# Altium schematic symbol library TeknoFest.SchLib: 9 symbols
Pins are listed as number, name and electrical type; pins without a type are passive.

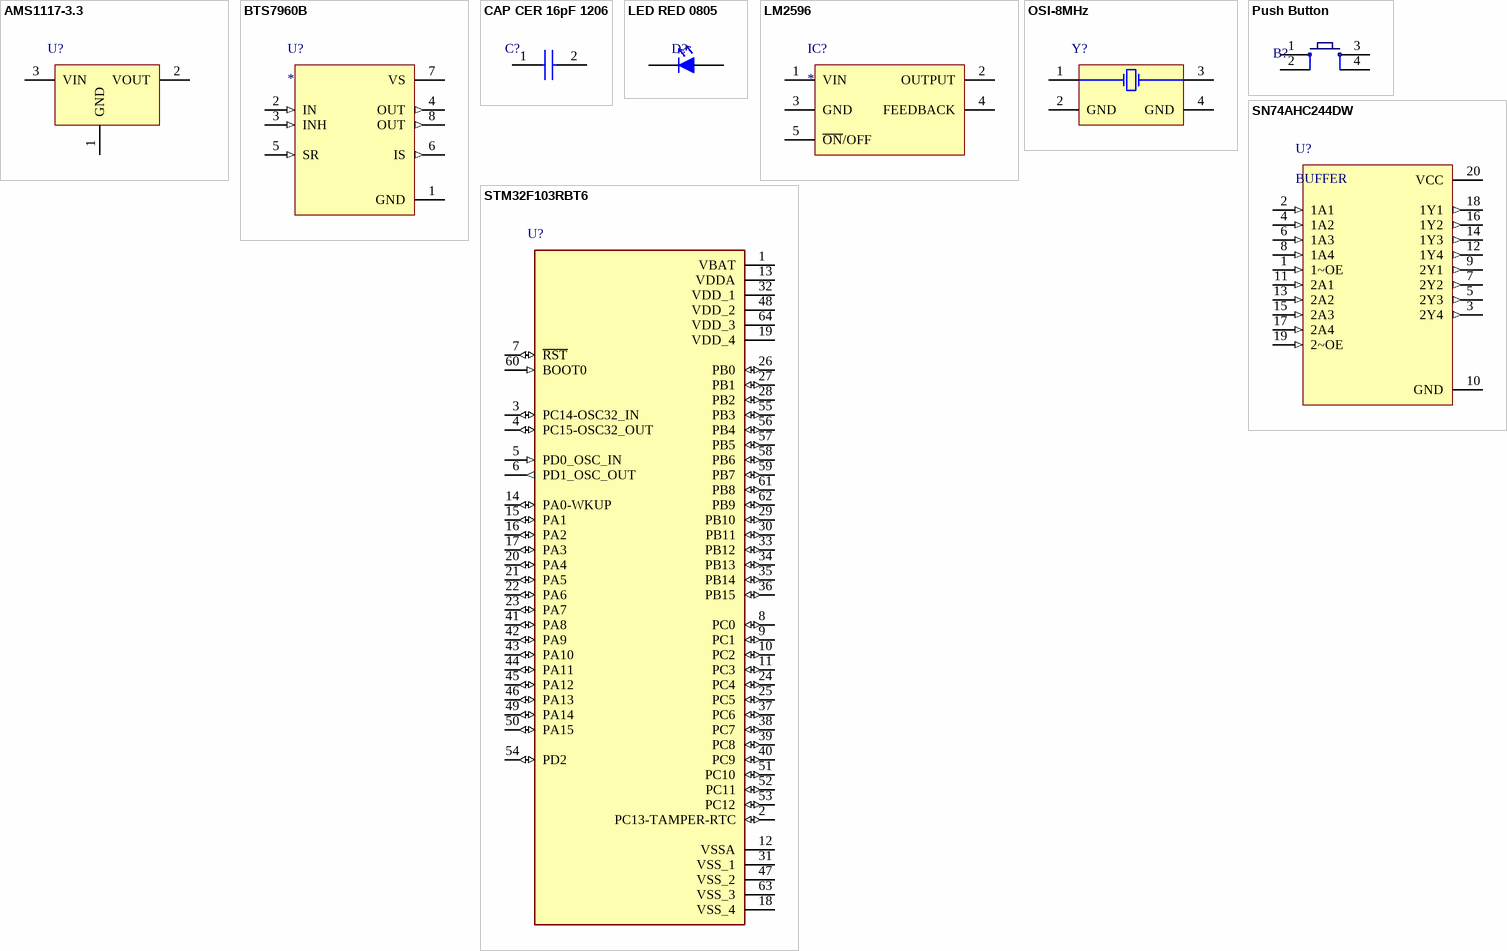
[diagram p0: symbols AMS1117-3.3 to STM32F103RBT6]

## AMS1117-3.3
designator U?  (value not drawn)
IC-1117 V.REG. 1A 3V3 SOT223 SMD AMS; Manufacturer: UMW(Youtai Semiconductor Co., Ltd.); Designed by: Mustafa oğuz Ateş; Supplier: Digikey; Supplier Part Number: 4518-AMS1117-3.3CT-ND; Manufacturer Part Number: AMS1117-3.3; RoHS: No; Category: Uncategorized; Pricing: 1=0,48, 10=0,388, 25=0,3552, 100=0,2644, 250=0,2396, 500=0,19828, 1000=0,14871 (USD)
footprint SOT-223
pins: 1 GND, 2 VOUT, 3 VIN
text: /

## BTS7960B
designator U?
footprint DPAK127P1490X440-8N
pins: 1 GND (power), 2 IN (in), 3 INH (in), 4 OUT (out), 5 SR (in), 6 IS (out), 7 VS (power), 8 OUT (out)

## CAP CER 16pF 1206
designator C?  (value not drawn)
footprint CAP_1206
pins: 1, 2

## LED RED 0805
designator D?, comment LH R974-LP-1  (value not drawn)
LED Uni-Color Hyper Red 660nm 2-Pin Chip 0805(2012Metric) T/R; Manufacturer: Osram Opto; Lens Color: White; Forward Voltage: 1.8V; Lens Style: Diffused,Flat,Colorless; Luminous Intensity: 71mcd; Viewing Angle: 160°; Forward Current: 30mA; Dominant Wavelength: 645nm; Number of Elements: 1; Test Current: 20mA; Reverse Voltage: 5V; Lens Transparency: Diffused; Luminous Flux: 0.17lm; Lens Size: 1.25mm; Designed by: Mustafa; Supplier 1: Digi-Key; Manufacturer Part Number: LH R974-LP-1; RoHS: Yes; Category: LEDs; Stock 1: 35632; Pricing 1: 1=0,26000, 10=0,13900, 100=0,06480, 500=0,05978, 1000=0,04683, 2000=0,04584 (USD); Mount: Surface Mount; Case/Package: 0805; Number of Pins: 2; Color: Red; Case Code (Imperial): 0805; Case Code (Metric): 2012; Min Operating Temperature: -30°C; Max Operating Temperature: 85°C; Packaging: Tape and Reel; Illumination Color: Red; Package Quantity: 1; Series: CHipLED; Length: 2.1mm; Width: 1.25mm; Depth: 1.35mm; Radiation Hardening: No; RoHS Compliant: Yes; ComponentLink1URL: http://www.jameco.com/Jameco/Products/ProdDS/2085634.pdf?src-supplier=Jameco; ComponentLink1Description: http://www.jameco.com/Jameco/Products/ProdDS/2085634.pdf?src-supplier=Jameco; ComponentLink2URL: http://components.arrow.com/part/dataview/0323_01825492?src-supplier=Arrow+Europe; ComponentLink2Description: http://components.arrow.com/part/dataview/0323_01825492?src-supplier=Arrow+Europe; ComponentLink3URL: https://dammedia.osram.info/media/resource/hires/osram-dam-2493888/LH%20R974.pdf?src-supplier=Digi-Key; ComponentLink3Description: https://dammedia.osram.info/media/resource/hires/osram-dam-2493888/LH%20R974.pdf?src-supplier=Digi-Key; ComponentLink4URL: http://www.mouser.com/ds/2/311/LH%20R974%20-%20CHIPLED%200805-318659.pdf?src-supplier=Mouser; ComponentLink4Description: http://www.mouser.com/ds/2/311/LH%20R974%20-%20CHIPLED%200805-318659.pdf?src-supplier=Mouser; ComponentLink5URL: https://www.verical.com/server-webapp/html/getDatasheet?partID=258950&src-supplier=Verical; ComponentLink5Description: https://www.verical.com/server-webapp/html/getDatasheet?partID=258950&src-supplier=Verical; ComponentLink6URL: http://components.arrow.com/part/dataview/41971690S1077610N9133?src-supplier=Arrow+Electronics; ComponentLink6Description: http://components.arrow.com/part/dataview/41971690S1077610N9133?src-supplier=Arrow+Electronics; ComponentLink7URL: http://components.arrow.com/part/dataview/41971690S6190115N2128?src-supplier=Arrow+Electronics; ComponentLink7Description: http://components.arrow.com/part/dataview/41971690S6190115N2128?src-supplier=Arrow+Electronics; Supplier Part Number 1: 475-1415-1-ND
footprint LED_RED_0805
pins: 1 (power), 2 (power)

## LM2596
designator IC?
footprint D2PAK
pins: 1 VIN, 2 OUTPUT, 3 GND, 4 FEEDBACK, 5 ~{ON}/OFF

## OSI-8MHz
designator Y?, comment 8MHz-osi  (value not drawn)
CRYSTAL 8MHZ 12.5pF SMD TR RALTRON; Frequency Tolerance: ±20PPM; Frequency Stability: ±15PPM; Equivalent Series Resistance (ESR): 100 Ohms; Designed by: Mustafa oğuz ateş; Frequency: 8MHz; Capacitance: 12.5pF; Operating Temperature: -40°C~+85°C; Dimensions (mm): 3.20x2.50x0.70; Packaging: TAPE&REEL; Package / Case: 4-SMD; Series: RH100; Manufacturer: RALTRON; Mounting Type: SMT
footprint 8MHz-OSC
pins: 1 Tristate, 2 GND, 3 OUT, 4 GND

## Push Button
designator B?  (value not drawn)
Smd Push Button; Satın Alma Linki: https://urun.n11.com/diger/mini-pushbutton-switch-smd-P227461537?gclid=Cj0KCQjwkoDmBRCcARIsAG3xzl8Y_-jeD7HocNM6lvuZ_rVp83568XPGtNzlPwXWLph8oCRqo0yh87UaApZYEALw_wcB&gclsrc=aw.ds
footprint PUSB BUTTON-SMD
pins: 1, 2, 3, 4

## SN74AHC244DW
designator U?, comment BUFFER
IC BUFFER INVERT 5.5V 20SOIC
footprint SOIC127P1030X265-20N
pins: 1 1~OE (in), 2 1A1 (in), 3 2Y4 (out), 4 1A2 (in), 5 2Y3 (out), 6 1A3 (in), 7 2Y2 (out), 8 1A4 (in), 9 2Y1 (out), 10 GND (power), 11 2A1 (in), 12 1Y4 (out), 13 2A2 (in), 14 1Y3 (out), 15 2A3 (in), 16 1Y2 (out), 17 2A4 (in), 18 1Y1 (out), 19 2~OE (in), 20 VCC (power)

## STM32F103RBT6
designator U?  (value not drawn)
STM32F103RTB6 LQFP-64; MF: STMicroelectronics; Designed by: Mustafa Oğuz Ateş; Package: LQFP-64 STMicroelectronics; Price: None; Check_prices: https://www.snapeda.com/parts/STM32F103RBT6/STMicroelectronics/view-part/?ref=eda; Value: *; SnapEDA_Link: https://www.snapeda.com/parts/STM32F103RBT6/STMicroelectronics/view-part/?ref=snap; MP: STM32F103RBT6; Availability: In Stock; Purchase-URL: https://pricing.snapeda.com/search?q=STM32F103RBT6&ref=eda
footprint LQFP-64
pins: 1 VBAT (power), 2 PC13-TAMPER-RTC (io), 3 PC14-OSC32_IN (io), 4 PC15-OSC32_OUT (io), 5 PD0_OSC_IN (in), 6 PD1_OSC_OUT (out), 7 ~{RST} (io), 8 PC0 (io), 9 PC1 (io), 10 PC2 (io), 11 PC3 (io), 12 VSSA (power), 13 VDDA (power), 14 PA0-WKUP (io), 15 PA1 (io), 16 PA2 (io), 17 PA3 (io), 18 VSS_4 (power), 19 VDD_4 (power), 20 PA4 (io), 21 PA5 (io), 22 PA6 (io), 23 PA7 (io), 24 PC4 (io), 25 PC5 (io), 26 PB0 (io), 27 PB1 (io), 28 PB2 (io), 29 PB10 (io), 30 PB11 (io), 31 VSS_1 (power), 32 VDD_1 (power), 33 PB12 (io), 34 PB13 (io), 35 PB14 (io), 36 PB15 (io), 37 PC6 (io), 38 PC7 (io), 39 PC8 (io), 40 PC9 (io), 41 PA8 (io), 42 PA9 (io), 43 PA10 (io), 44 PA11 (io), 45 PA12 (io), 46 PA13 (io), 47 VSS_2 (power), 48 VDD_2 (power), 49 PA14 (io), 50 PA15 (io), 51 PC10 (io), 52 PC11 (io), 53 PC12 (io), 54 PD2 (io), 55 PB3 (io), 56 PB4 (io), 57 PB5 (io), 58 PB6 (io), 59 PB7 (io), 60 BOOT0 (in), 61 PB8 (io), 62 PB9 (io), 63 VSS_3 (power), 64 VDD_3 (power)